# Altium integrated library RCU_sourse.IntLib: 7 symbols
Pins are listed as number, name and electrical type; pins without a type are passive.

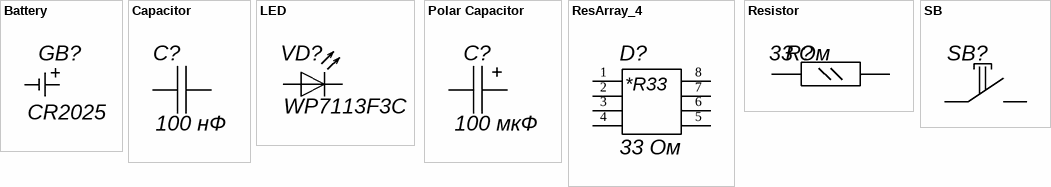
[diagram p0: symbols Battery to SB]

## Battery
designator GB?, comment CR2025
3V; Value: 3 В; Type: Элемент аккумуляторный; HelpURL: D:\Elena\Тест-драйв\Datasheets\BAT_CR2025.pdf; ComponentLink1URL: D:\Elena\Тест-драйв\Datasheets\battery holder.pdf; ComponentLink1Description: Держатель батареи; ManufacturerPartNumber: CR2025
footprint bat_cr2025_1
pins: 1, 2

## Capacitor
designator C?, comment 100 нФ
100n; Type: Конденсатор ЧИП; Name: 0805; Power/Voltage: 50В; Tolerance: 10%; Value: 100 нФ
footprint C_0805
pins: 1, 2

## LED
designator VD?, comment WP7113F3C
light-emitting diode D5mm; Manufacturer: Kingbright; Type: Светодиод; HelpURL: D:\Elena\Тест-драйв\Datasheets\WP7113F3C.pdf; ManufacturerPartNumber: WP7113F3C
footprint WP7113
pins: 1, 2

## Polar Capacitor
designator C?, comment 100 мкФ
100u/6.3V; Manufacturer: KEMET; ManufacturerPartNumber: A700D107M006ATE015; Type: Конденсатор танталовый электролитический; Name: CaseD; Power/Voltage: 6,3В; Tolerance: 20%; Value: 100 мкФ; HelpURL: D:\Elena\Тест-драйв\Datasheets\Kemet_A700.pdf
footprint Case D
pins: 1, 2

## ResArray_4
designator D?, comment 33 Ом
4x33Om/0.062W; Manufacturer: Bourns; ManufacturerPartNumber: Резисторная сборка CAY16-330J4; Name: 1206; Power/Voltage: 4x33 Ом; Value: 33 Ом; HelpURL: D:\Elena\Тест-драйв\Datasheets\Resistor_Array_Bourns.pdf
footprint yc16
pins: 1, 2, 3, 4, 5, 6, 7, 8
text: *R33

## Resistor
designator R?, comment 33 Ом
33Om/0.125W; Name: 0805; Power/Voltage: 0,125 Вт; Tolerance: 5%; Type: Резистор ЧИП; Value: 33 Ом
footprint R_0805
pins: 1, 2

## SB
designator SB?, comment DTSM-3-2  (value not drawn)
Тактовая кнопка; Type: Кнопка тактовая; HelpURL: D:\Elena\Тест-драйв\Datasheets\dts-3series.pdf; ManufacturerPartNumber: DTSM-3-2
footprint DTSM-3-2
pins: 1, 2